# Altium schematic symbol library Transient Voltage Suppression Diode (TVS).SchLib: 1 symbol
Pins are listed as number, name and electrical type; pins without a type are passive.

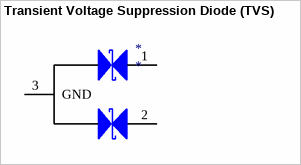
[diagram p0: symbol Transient Voltage Suppression Diode (TVS)]

## Transient Voltage Suppression Diode (TVS)
designator *
Dual CAN Line Bus Protector
pins: 1, 2, 3 GND